# Altium footprint library UPC4081.PcbLib: 1 footprints
Each footprint in its own frame and in the unit in brackets; x right, y up, seen from the top. Pads: shape width x height; smd on the part's side, far side on the other; paste and mask are expansions set on the pad; w line width, h text height; cw(c..) or ccw(c..) is an arc to the next point about the centre after c.
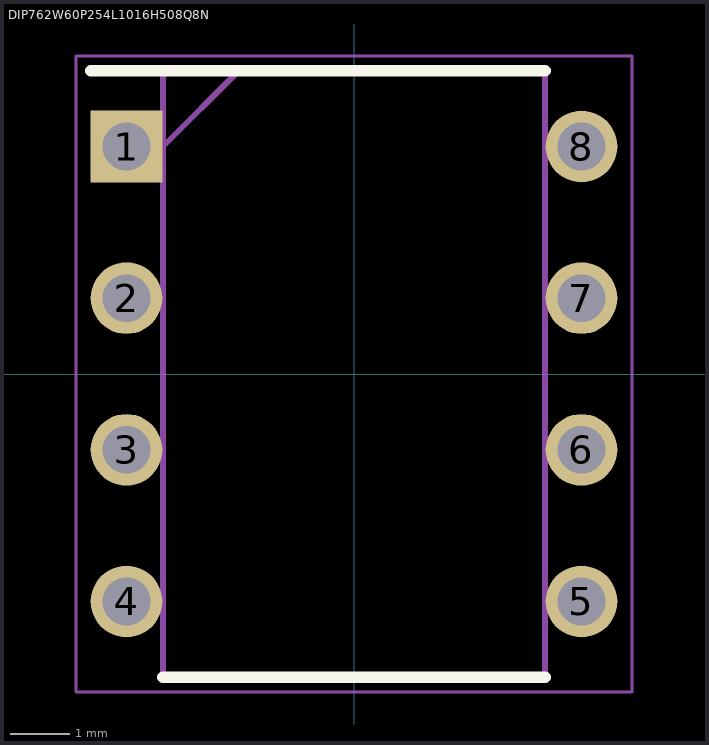
[diagram p0: the footprint, top view; thin cyan lines are the x and y axes]

## DIP762W60P254L1016H508Q8N [mm]
pads (8):
  rect 1.2x1.2 / inner round 1.2 / far side rect 1.2x1.2 hole 0.8: 1(-3.81,3.81)
  round 1.2 hole 0.8: 2(-3.81,1.27) 3(-3.81,-1.27) 4(-3.81,-3.81) 5(3.81,-3.81) 6(3.81,-1.27) 7(3.81,1.27) 8(3.81,3.81)
Top Overlay:
  lines w0.2: -4.41,5.08 3.2,5.08 ; -3.2,-5.08 3.2,-5.08
Mechanical 15:
  lines w0.1: -3.2,3.81 -1.93,5.08 ; -3.2,-5.08 3.2,-5.08 3.2,5.08 -3.2,5.08 -3.2,-5.08
Mechanical 20:
  lines w0.05: -4.66,-5.33 4.66,-5.33 4.66,5.33 -4.66,5.33 -4.66,-5.33
3D body "UPC4081C.stp": height 5.8, standoff -4.65, extent -10,-3.376 10,3.376